# Altium integrated library Texas Instruments Power Management PWM Controller.IntLib: 1227 symbols (part 41 of 49)
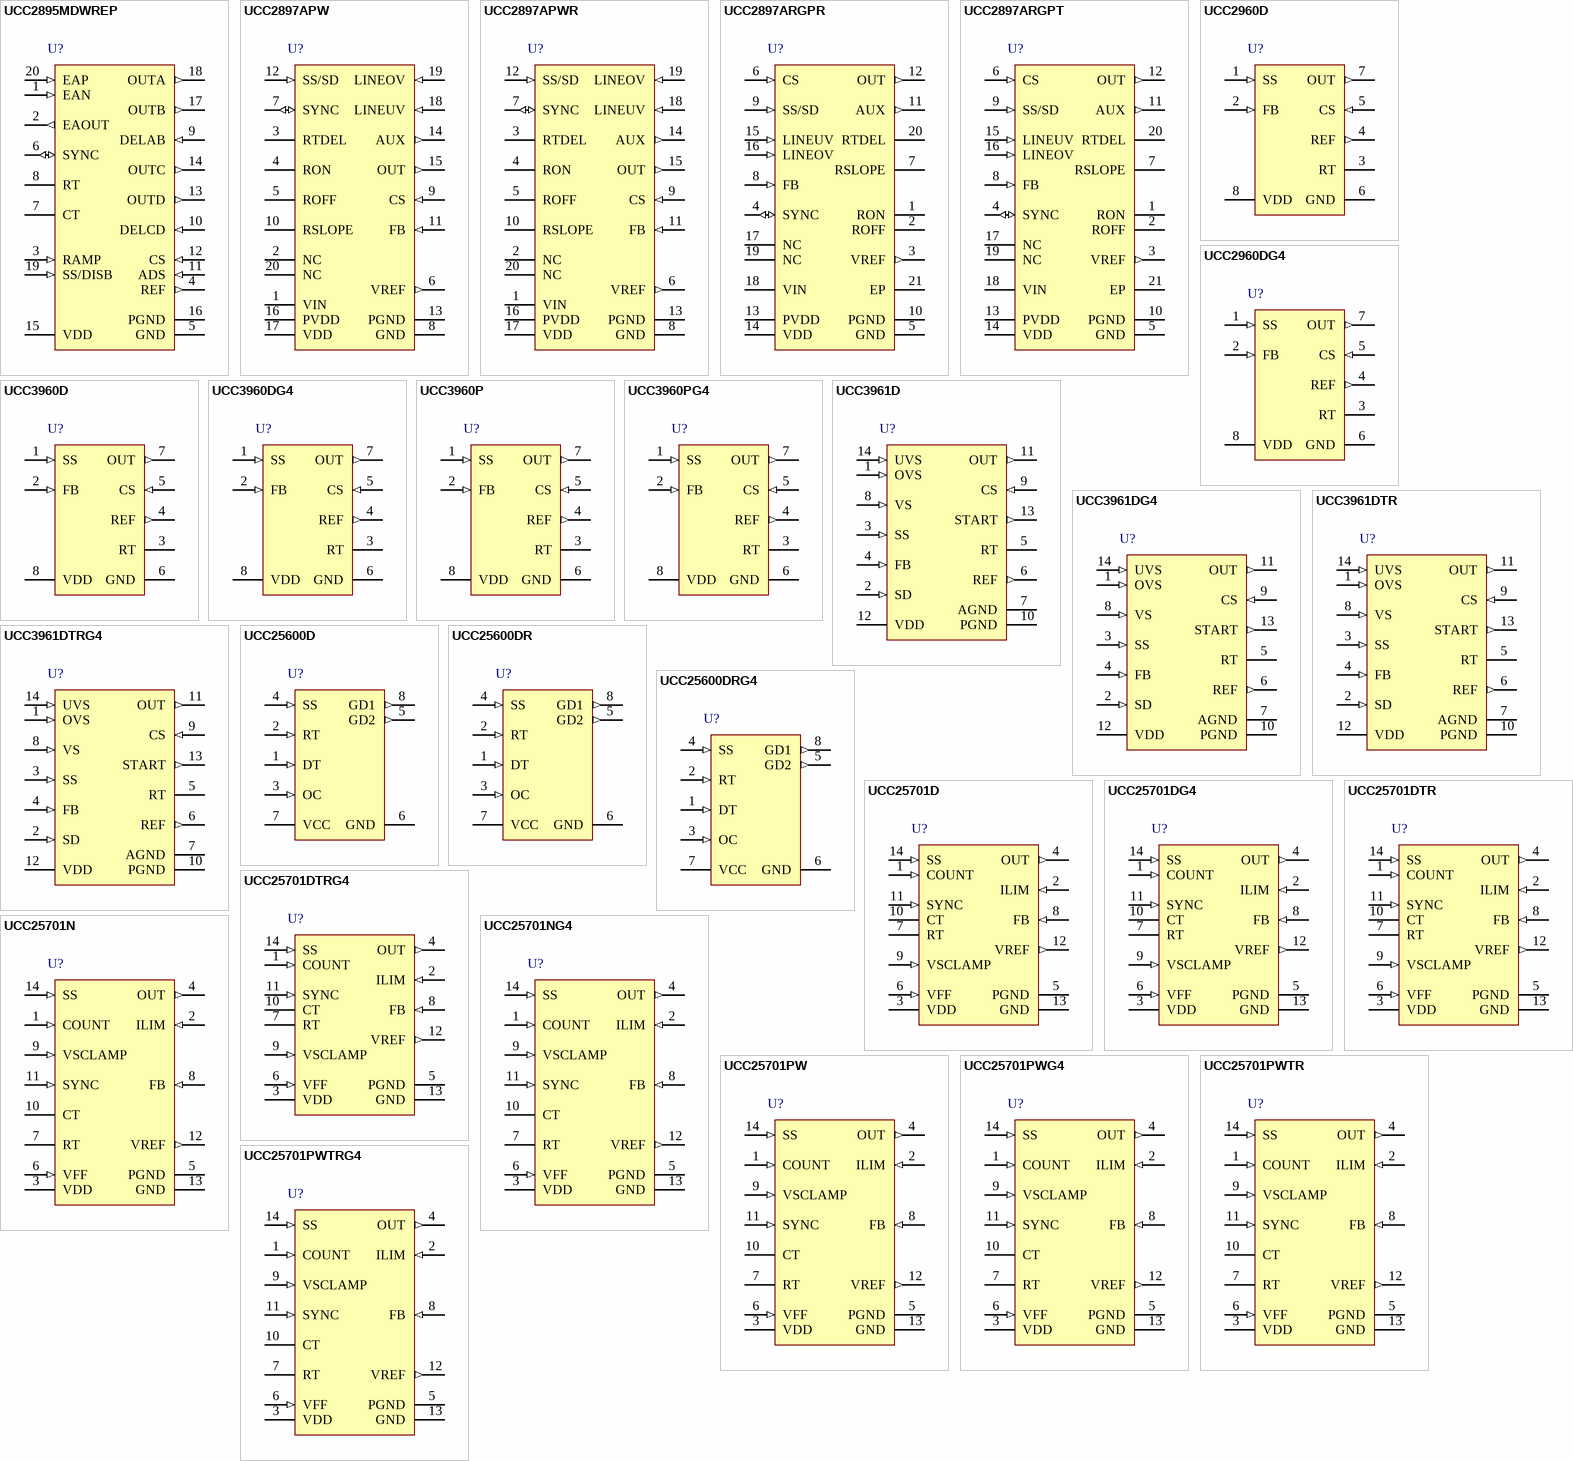
[diagram p83: symbols UCC2895MDWREP to UCC25701PWTRG4]

## UCC25600DRG4
designator U?
High-Performance Resonant Mode Controller with Voltage Control, 50 % Duty Cycle, -40 to +125 degC, 8-pin SOIC (D), Green (RoHS & no Sb/Br); PartNumber: UCC25600DRG4; Manufacturer: Texas Instruments; Duty Cycle(Max)(%): 50; Frequency(Max)(kHz): 350; Rating: Catalog; Regulated Outputs(#): 2; SubFamily: PWM Controller; Topology: Resonant, Half-Bridge; UVLO Thresholds On/Off(V): 10.5/9.5; DatasheetVersion: SLUS846B; PackageVersion: revM, Jun-2011; PackageReference: D8; PackageDescription: 8-Pin Plastic Small Outline Integrated Circuit, 4.9 x 3.9 mm, Pitch 1.27 mm Pitch; Supplier 1: Digi-Key; Supplier Part Number 1: UCC25600DRG4-ND; Supplier 2: Newark; Supplier Part Number 2: 34P6590; Supplier 3: Mouser; Supplier Part Number 3: 595-UCC25600DRG4; Control Method: Voltage; Eco-Plan: Green (RoHS & no Sb/Br); Mounting Technology: Surface Mount; Code_JEDEC: MS-012AA; ComponentLink1Description: Datasheet; ComponentLink1URL: http://www.ti.com/general/docs/lit/getliterature.tsp?genericPartNumber=UCC25600&fileType=pdf; ComponentLink2Description: URL Link1; ComponentLink2URL: Samples URL:http://www.ti.com/lit/ds/symlink/ucc25600.pdf
footprint D8_N (SOIC, 8-Leads, Body 4.9x3.9mm, Pitch 1.27mm, IPC Medium Density)
footprint D8_L (SOIC, 8-Leads, Body 4.9x3.9mm, Pitch 1.27mm, IPC High Density)
footprint D8_M (SOIC, 8-Leads, Body 4.9x3.9mm, Pitch 1.27mm, IPC Low Density)
pins: 1 DT (in) "This pin sets the dead time of high-side and low-side switch driving signals. Connect a resistor to ground. With internal 2.25-V voltage reference, the current flowing through the resistor sets the dead time. To prevent (See Datasheet)", 2 RT (in) "The current flowing out of this pin sets the frequency of the gate driver signals. Connect the opto-coupler collector to this pin to control the switching frequency for regulation purpose. Parallel a resistor to ground to (See Datasheet)", 3 OC (in) "Over-current protection pin. When the voltage on this pin is above 1 V, gate driver signals are actively pulled low. After the voltage falls below 0.6 V, the gate driver signal recovers with soft start. When OC pin voltage (See Datasheet)", 4 SS (in) "Soft-start pin. This pin sets the soft-start time of the system. Connect a capacitor to ground. Pulling this pin below 1 V will disable the device to allow easy ON/OFF control. The soft-start function is enabled after all (See Datasheet)", 5 GD2 (out) "High-side and low-side switch gate driver. Connect gate driver transformer primary side to these two pins to drive the half bridge.", 6 GND (power) "Ground.", 7 VCC (power) "Bias Supply. Connect this pin to a power supply less than 20 V. Parallel a 1-uF capacitor to ground to filter out noise.", 8 GD1 (out) "High-side and low-side switch gate driver. Connect gate driver transformer primary side to these two pins to drive the half bridge."

## UCC25701D
designator U?
Advanced Pulse Width Modulator with Voltage Control, 99 % Duty Cycle, -40 to +85 degC, 14-pin SOIC (D), Green (RoHS & no Sb/Br); PartNumber: UCC25701D; Manufacturer: Texas Instruments; Duty Cycle(Max)(%): 99; Frequency(Max)(kHz): 700; Rating: Catalog; Regulated Outputs(#): 1; SubFamily: PWM Controller; Topology: Boost, Flyback, Forward; UVLO Thresholds On/Off(V): 13/9; DatasheetVersion: SLUS293C; PackageVersion: revM, Jun-2011; PackageReference: D14; PackageDescription: 14-Pin Plastic Small Outline Integrated Circuit, 8.7 x 3.9 mm, Pitch 1.27 mm Pitch; Supplier 1: Digi-Key; Supplier Part Number 1: 296-11363-5-ND; Supplier 2: Newark; Supplier Part Number 2: 77C1914; Supplier 3: Mouser; Supplier Part Number 3: 595-UCC25701D; Control Method: Voltage; Eco-Plan: Green (RoHS & no Sb/Br); Mounting Technology: Surface Mount; Code_JEDEC: MS-012AB; ComponentLink1Description: Datasheet; ComponentLink1URL: http://www.ti.com/general/docs/lit/getliterature.tsp?genericPartNumber=UCC25701&fileType=pdf
footprint D14_N (SOIC, 14-Leads, Body 8.7x3.9mm, Pitch 1.27mm, IPC Medium Density)
footprint D14_L (SOIC, 14-Leads, Body 8.7x3.9mm, Pitch 1.27mm, IPC High Density)
footprint D14_M (SOIC, 14-Leads, Body 8.7x3.9mm, Pitch 1.27mm, IPC Low Density)
pins: 1 COUNT (in) "Capacitor to ground integrates current pulses generated when ILIM exceeds 200mV. A resistor to ground sets the discharge time constant. A voltage over 4V will initiate a latched soft stop cycle.", 2 ILIM (in) "Provides a pulse by pulse current limit by terminating the PWM pulse when the input is above 200mV. An input over 600mV initiates a latched soft stop cycle.", 3 VDD (power) "Power supply pin. A shunt regulator limits supply voltage to 14V typical at 10mA shunt current.", 4 OUT (out) "Gate drive output. Output resistance is 10ohm maximum.", 5 PGND (power) "Power Ground. Ground return for output driver and currents.", 6 VFF (in) "Voltage feedforward pin. This pin connects to the power supply input voltage through a resistive divider and provides feedforward compensation over a 0.8V to 3.2V range. A voltage greater than 4.0V or less than 0.6V on this (See Datasheet)", 7 RT "The voltage on this pin mirrors VFF over a 0.8V to 3.2V range. A resistor to ground sets the ramp capacitor charge current. The resistor value should be between 20k and 200k.", 8 FB (in) "Input to the PWM comparator. This pin is intended to be driven with an optocoupler circuit. Input impedance is 50 k ohm Typical modulation range is 1.6V to 3.6V.", 9 VSCLAMP (in) "Voltage at this pin is compared to the CT voltage, providing a constant volt-second limit. The comparator output terminates the PWM pulse when the ramp voltage exceeds VSCLAMP.", 10 CT "A capacitor to ground provides the oscillator/ feedforward sawtooth waveform. Charge current is 2 ohm IRT, resulting in a CT slope proportional to the input voltage. The ramp voltage range is GND to VRT.", 11 SYNC (in) "Level sensitive oscillator sync input. A high level forces the gate drive output low and resets the ramp capacitor. On-time starts at the negative edge the pulse. There is a 3 uA pull down current on the pin, allowing it to (See Datasheet)", 12 VREF (out) "5.0V trimmed reference with 2% variation over line, load and temperature. Bypass with a minimum of 0.1 uF to ground.", 13 GND (power) "Analog Ground. Ground return for all other circuits. This pin must be connected directly to PGND on the board.", 14 SS (in) "Soft Start pin. A capacitor is connected between this pin and ground to set the start up time of the converter. After power up (VDD>13V AND VREF>4.5V), or after a fault condition has been cleared, the soft start capacitor is (See Datasheet)"

## UCC25701DG4
designator U?
Advanced Pulse Width Modulator with Voltage Control, 99 % Duty Cycle, -40 to +85 degC, 14-pin SOIC (D), Green (RoHS & no Sb/Br); PartNumber: UCC25701DG4; Manufacturer: Texas Instruments; Duty Cycle(Max)(%): 99; Frequency(Max)(kHz): 700; Rating: Catalog; Regulated Outputs(#): 1; SubFamily: PWM Controller; Topology: Boost, Flyback, Forward; UVLO Thresholds On/Off(V): 13/9; DatasheetVersion: SLUS293C; PackageVersion: revM, Jun-2011; PackageReference: D14; PackageDescription: 14-Pin Plastic Small Outline Integrated Circuit, 8.7 x 3.9 mm, Pitch 1.27 mm Pitch; Supplier 1: Digi-Key; Supplier Part Number 1: UCC25701DG4-ND; Supplier 2: Newark; Supplier Part Number 2: 70K5855; Supplier 3: Mouser; Supplier Part Number 3: 595-UCC25701DG4; Control Method: Voltage; Eco-Plan: Green (RoHS & no Sb/Br); Mounting Technology: Surface Mount; Code_JEDEC: MS-012AB; ComponentLink1Description: Datasheet; ComponentLink1URL: http://www.ti.com/general/docs/lit/getliterature.tsp?genericPartNumber=UCC25701&fileType=pdf
footprint D14_N (SOIC, 14-Leads, Body 8.7x3.9mm, Pitch 1.27mm, IPC Medium Density)
footprint D14_L (SOIC, 14-Leads, Body 8.7x3.9mm, Pitch 1.27mm, IPC High Density)
footprint D14_M (SOIC, 14-Leads, Body 8.7x3.9mm, Pitch 1.27mm, IPC Low Density)
pins: 1 COUNT (in) "Capacitor to ground integrates current pulses generated when ILIM exceeds 200mV. A resistor to ground sets the discharge time constant. A voltage over 4V will initiate a latched soft stop cycle.", 2 ILIM (in) "Provides a pulse by pulse current limit by terminating the PWM pulse when the input is above 200mV. An input over 600mV initiates a latched soft stop cycle.", 3 VDD (power) "Power supply pin. A shunt regulator limits supply voltage to 14V typical at 10mA shunt current.", 4 OUT (out) "Gate drive output. Output resistance is 10ohm maximum.", 5 PGND (power) "Power Ground. Ground return for output driver and currents.", 6 VFF (in) "Voltage feedforward pin. This pin connects to the power supply input voltage through a resistive divider and provides feedforward compensation over a 0.8V to 3.2V range. A voltage greater than 4.0V or less than 0.6V on this (See Datasheet)", 7 RT "The voltage on this pin mirrors VFF over a 0.8V to 3.2V range. A resistor to ground sets the ramp capacitor charge current. The resistor value should be between 20k and 200k.", 8 FB (in) "Input to the PWM comparator. This pin is intended to be driven with an optocoupler circuit. Input impedance is 50 k ohm Typical modulation range is 1.6V to 3.6V.", 9 VSCLAMP (in) "Voltage at this pin is compared to the CT voltage, providing a constant volt-second limit. The comparator output terminates the PWM pulse when the ramp voltage exceeds VSCLAMP.", 10 CT "A capacitor to ground provides the oscillator/ feedforward sawtooth waveform. Charge current is 2 ohm IRT, resulting in a CT slope proportional to the input voltage. The ramp voltage range is GND to VRT.", 11 SYNC (in) "Level sensitive oscillator sync input. A high level forces the gate drive output low and resets the ramp capacitor. On-time starts at the negative edge the pulse. There is a 3 uA pull down current on the pin, allowing it to (See Datasheet)", 12 VREF (out) "5.0V trimmed reference with 2% variation over line, load and temperature. Bypass with a minimum of 0.1 uF to ground.", 13 GND (power) "Analog Ground. Ground return for all other circuits. This pin must be connected directly to PGND on the board.", 14 SS (in) "Soft Start pin. A capacitor is connected between this pin and ground to set the start up time of the converter. After power up (VDD>13V AND VREF>4.5V), or after a fault condition has been cleared, the soft start capacitor is (See Datasheet)"

## UCC25701DTR
designator U?
Advanced Pulse Width Modulator with Voltage Control, 99 % Duty Cycle, -40 to +85 degC, 14-pin SOIC (D), Green (RoHS & no Sb/Br); PartNumber: UCC25701DTR; Manufacturer: Texas Instruments; Duty Cycle(Max)(%): 99; Frequency(Max)(kHz): 700; Rating: Catalog; Regulated Outputs(#): 1; SubFamily: PWM Controller; Topology: Boost, Flyback, Forward; UVLO Thresholds On/Off(V): 13/9; DatasheetVersion: SLUS293C; PackageVersion: revM, Jun-2011; PackageReference: D14; PackageDescription: 14-Pin Plastic Small Outline Integrated Circuit, 8.7 x 3.9 mm, Pitch 1.27 mm Pitch; Supplier 1: Digi-Key; Supplier Part Number 1: UCC25701DTR-ND; Supplier 2: Newark; Supplier Part Number 2: 77C1915; Supplier 3: Mouser; Supplier Part Number 3: 595-UCC25701DTR; Control Method: Voltage; Eco-Plan: Green (RoHS & no Sb/Br); Mounting Technology: Surface Mount; Code_JEDEC: MS-012AB; ComponentLink1Description: Datasheet; ComponentLink1URL: http://www.ti.com/general/docs/lit/getliterature.tsp?genericPartNumber=UCC25701&fileType=pdf
footprint D14_N (SOIC, 14-Leads, Body 8.7x3.9mm, Pitch 1.27mm, IPC Medium Density)
footprint D14_L (SOIC, 14-Leads, Body 8.7x3.9mm, Pitch 1.27mm, IPC High Density)
footprint D14_M (SOIC, 14-Leads, Body 8.7x3.9mm, Pitch 1.27mm, IPC Low Density)
pins: 1 COUNT (in) "Capacitor to ground integrates current pulses generated when ILIM exceeds 200mV. A resistor to ground sets the discharge time constant. A voltage over 4V will initiate a latched soft stop cycle.", 2 ILIM (in) "Provides a pulse by pulse current limit by terminating the PWM pulse when the input is above 200mV. An input over 600mV initiates a latched soft stop cycle.", 3 VDD (power) "Power supply pin. A shunt regulator limits supply voltage to 14V typical at 10mA shunt current.", 4 OUT (out) "Gate drive output. Output resistance is 10ohm maximum.", 5 PGND (power) "Power Ground. Ground return for output driver and currents.", 6 VFF (in) "Voltage feedforward pin. This pin connects to the power supply input voltage through a resistive divider and provides feedforward compensation over a 0.8V to 3.2V range. A voltage greater than 4.0V or less than 0.6V on this (See Datasheet)", 7 RT "The voltage on this pin mirrors VFF over a 0.8V to 3.2V range. A resistor to ground sets the ramp capacitor charge current. The resistor value should be between 20k and 200k.", 8 FB (in) "Input to the PWM comparator. This pin is intended to be driven with an optocoupler circuit. Input impedance is 50 k ohm Typical modulation range is 1.6V to 3.6V.", 9 VSCLAMP (in) "Voltage at this pin is compared to the CT voltage, providing a constant volt-second limit. The comparator output terminates the PWM pulse when the ramp voltage exceeds VSCLAMP.", 10 CT "A capacitor to ground provides the oscillator/ feedforward sawtooth waveform. Charge current is 2 ohm IRT, resulting in a CT slope proportional to the input voltage. The ramp voltage range is GND to VRT.", 11 SYNC (in) "Level sensitive oscillator sync input. A high level forces the gate drive output low and resets the ramp capacitor. On-time starts at the negative edge the pulse. There is a 3 uA pull down current on the pin, allowing it to (See Datasheet)", 12 VREF (out) "5.0V trimmed reference with 2% variation over line, load and temperature. Bypass with a minimum of 0.1 uF to ground.", 13 GND (power) "Analog Ground. Ground return for all other circuits. This pin must be connected directly to PGND on the board.", 14 SS (in) "Soft Start pin. A capacitor is connected between this pin and ground to set the start up time of the converter. After power up (VDD>13V AND VREF>4.5V), or after a fault condition has been cleared, the soft start capacitor is (See Datasheet)"

## UCC25701DTRG4
designator U?
Advanced Pulse Width Modulator with Voltage Control, 99 % Duty Cycle, -40 to +85 degC, 14-pin SOIC (D), Green (RoHS & no Sb/Br); PartNumber: UCC25701DTRG4; Manufacturer: Texas Instruments; Duty Cycle(Max)(%): 99; Frequency(Max)(kHz): 700; Rating: Catalog; Regulated Outputs(#): 1; SubFamily: PWM Controller; Topology: Boost, Flyback, Forward; UVLO Thresholds On/Off(V): 13/9; DatasheetVersion: SLUS293C; PackageVersion: revM, Jun-2011; PackageReference: D14; PackageDescription: 14-Pin Plastic Small Outline Integrated Circuit, 8.7 x 3.9 mm, Pitch 1.27 mm Pitch; Supplier 1: Digi-Key; Supplier Part Number 1: UCC25701DTRG4-ND; Supplier 2: Newark; Supplier Part Number 2: 67K8760; Supplier 3: Mouser; Supplier Part Number 3: 595-UCC25701DTRG4; Control Method: Voltage; Eco-Plan: Green (RoHS & no Sb/Br); Mounting Technology: Surface Mount; Code_JEDEC: MS-012AB; ComponentLink1Description: Datasheet; ComponentLink1URL: http://www.ti.com/general/docs/lit/getliterature.tsp?genericPartNumber=UCC25701&fileType=pdf
footprint D14_N (SOIC, 14-Leads, Body 8.7x3.9mm, Pitch 1.27mm, IPC Medium Density)
footprint D14_L (SOIC, 14-Leads, Body 8.7x3.9mm, Pitch 1.27mm, IPC High Density)
footprint D14_M (SOIC, 14-Leads, Body 8.7x3.9mm, Pitch 1.27mm, IPC Low Density)
pins: 1 COUNT (in) "Capacitor to ground integrates current pulses generated when ILIM exceeds 200mV. A resistor to ground sets the discharge time constant. A voltage over 4V will initiate a latched soft stop cycle.", 2 ILIM (in) "Provides a pulse by pulse current limit by terminating the PWM pulse when the input is above 200mV. An input over 600mV initiates a latched soft stop cycle.", 3 VDD (power) "Power supply pin. A shunt regulator limits supply voltage to 14V typical at 10mA shunt current.", 4 OUT (out) "Gate drive output. Output resistance is 10ohm maximum.", 5 PGND (power) "Power Ground. Ground return for output driver and currents.", 6 VFF (in) "Voltage feedforward pin. This pin connects to the power supply input voltage through a resistive divider and provides feedforward compensation over a 0.8V to 3.2V range. A voltage greater than 4.0V or less than 0.6V on this (See Datasheet)", 7 RT "The voltage on this pin mirrors VFF over a 0.8V to 3.2V range. A resistor to ground sets the ramp capacitor charge current. The resistor value should be between 20k and 200k.", 8 FB (in) "Input to the PWM comparator. This pin is intended to be driven with an optocoupler circuit. Input impedance is 50 k ohm Typical modulation range is 1.6V to 3.6V.", 9 VSCLAMP (in) "Voltage at this pin is compared to the CT voltage, providing a constant volt-second limit. The comparator output terminates the PWM pulse when the ramp voltage exceeds VSCLAMP.", 10 CT "A capacitor to ground provides the oscillator/ feedforward sawtooth waveform. Charge current is 2 ohm IRT, resulting in a CT slope proportional to the input voltage. The ramp voltage range is GND to VRT.", 11 SYNC (in) "Level sensitive oscillator sync input. A high level forces the gate drive output low and resets the ramp capacitor. On-time starts at the negative edge the pulse. There is a 3 uA pull down current on the pin, allowing it to (See Datasheet)", 12 VREF (out) "5.0V trimmed reference with 2% variation over line, load and temperature. Bypass with a minimum of 0.1 uF to ground.", 13 GND (power) "Analog Ground. Ground return for all other circuits. This pin must be connected directly to PGND on the board.", 14 SS (in) "Soft Start pin. A capacitor is connected between this pin and ground to set the start up time of the converter. After power up (VDD>13V AND VREF>4.5V), or after a fault condition has been cleared, the soft start capacitor is (See Datasheet)"

## UCC25701N
designator U?
Advanced Pulse Width Modulator with Voltage Control, 99 % Duty Cycle, -40 to +85 degC, 14-pin PDIP (N), Green (RoHS & no Sb/Br); PartNumber: UCC25701N; Manufacturer: Texas Instruments; Duty Cycle(Max)(%): 99; Frequency(Max)(kHz): 700; Rating: Catalog; Regulated Outputs(#): 1; SubFamily: PWM Controller; Topology: Boost, Flyback, Forward; UVLO Thresholds On/Off(V): 13/9; DatasheetVersion: SLUS293C; PackageVersion: revE, Dec-2002; PackageReference: N14; PackageDescription: 14-Pin Plastic Dual-In-Line Package, Row Spacing 7.62 mm, Pitch 2.54 mm; Supplier 1: Digi-Key; Supplier Part Number 1: 296-11364-5-ND; Supplier 2: Newark; Supplier Part Number 2: 03C3178; Supplier 3: Mouser; Supplier Part Number 3: 595-UCC25701N; Control Method: Voltage; Eco-Plan: Green (RoHS & no Sb/Br); Mounting Technology: Through Hole; Code_JEDEC: MS-001; ComponentLink1Description: Datasheet; ComponentLink1URL: http://www.ti.com/general/docs/lit/getliterature.tsp?genericPartNumber=UCC25701&fileType=pdf
footprint N14 (DIP, 14-Leads, Row Spacing 7.62mm, Pitch 2.54mm, Body 19.3x6.4mm)
pins: 1 COUNT (in) "Capacitor to ground integrates current pulses generated when ILIM exceeds 200mV. A resistor to ground sets the discharge time constant. A voltage over 4V will initiate a latched soft stop cycle.", 2 ILIM (in) "Provides a pulse by pulse current limit by terminating the PWM pulse when the input is above 200mV. An input over 600mV initiates a latched soft stop cycle.", 3 VDD (power) "Power supply pin. A shunt regulator limits supply voltage to 14V typical at 10mA shunt current.", 4 OUT (out) "Gate drive output. Output resistance is 10ohm maximum.", 5 PGND (power) "Power Ground. Ground return for output driver and currents.", 6 VFF (in) "Voltage feedforward pin. This pin connects to the power supply input voltage through a resistive divider and provides feedforward compensation over a 0.8V to 3.2V range. A voltage greater than 4.0V or less than 0.6V on this (See Datasheet)", 7 RT "The voltage on this pin mirrors VFF over a 0.8V to 3.2V range. A resistor to ground sets the ramp capacitor charge current. The resistor value should be between 20k and 200k.", 8 FB (in) "Input to the PWM comparator. This pin is intended to be driven with an optocoupler circuit. Input impedance is 50 k ohm Typical modulation range is 1.6V to 3.6V.", 9 VSCLAMP (in) "Voltage at this pin is compared to the CT voltage, providing a constant volt-second limit. The comparator output terminates the PWM pulse when the ramp voltage exceeds VSCLAMP.", 10 CT "A capacitor to ground provides the oscillator/ feedforward sawtooth waveform. Charge current is 2 ohm IRT, resulting in a CT slope proportional to the input voltage. The ramp voltage range is GND to VRT.", 11 SYNC (in) "Level sensitive oscillator sync input. A high level forces the gate drive output low and resets the ramp capacitor. On-time starts at the negative edge the pulse. There is a 3 uA pull down current on the pin, allowing it to (See Datasheet)", 12 VREF (out) "5.0V trimmed reference with 2% variation over line, load and temperature. Bypass with a minimum of 0.1 uF to ground.", 13 GND (power) "Analog Ground. Ground return for all other circuits. This pin must be connected directly to PGND on the board.", 14 SS (in) "Soft Start pin. A capacitor is connected between this pin and ground to set the start up time of the converter. After power up (VDD>13V AND VREF>4.5V), or after a fault condition has been cleared, the soft start capacitor is (See Datasheet)"

## UCC25701NG4
designator U?
Advanced Pulse Width Modulator with Voltage Control, 99 % Duty Cycle, -40 to +85 degC, 14-pin PDIP (N), Green (RoHS & no Sb/Br); PartNumber: UCC25701NG4; Manufacturer: Texas Instruments; Duty Cycle(Max)(%): 99; Frequency(Max)(kHz): 700; Rating: Catalog; Regulated Outputs(#): 1; SubFamily: PWM Controller; Topology: Boost, Flyback, Forward; UVLO Thresholds On/Off(V): 13/9; DatasheetVersion: SLUS293C; PackageVersion: revE, Dec-2002; PackageReference: N14; PackageDescription: 14-Pin Plastic Dual-In-Line Package, Row Spacing 7.62 mm, Pitch 2.54 mm; Supplier 1: Digi-Key; Supplier Part Number 1: UCC25701NG4-ND; Supplier 2: Newark; Supplier Part Number 2: 24K6270; Supplier 3: Mouser; Supplier Part Number 3: 595-UCC25701NG4; Control Method: Voltage; Eco-Plan: Green (RoHS & no Sb/Br); Mounting Technology: Through Hole; Code_JEDEC: MS-001; ComponentLink1Description: Datasheet; ComponentLink1URL: http://www.ti.com/general/docs/lit/getliterature.tsp?genericPartNumber=UCC25701&fileType=pdf
footprint N14 (DIP, 14-Leads, Row Spacing 7.62mm, Pitch 2.54mm, Body 19.3x6.4mm)
pins: 1 COUNT (in) "Capacitor to ground integrates current pulses generated when ILIM exceeds 200mV. A resistor to ground sets the discharge time constant. A voltage over 4V will initiate a latched soft stop cycle.", 2 ILIM (in) "Provides a pulse by pulse current limit by terminating the PWM pulse when the input is above 200mV. An input over 600mV initiates a latched soft stop cycle.", 3 VDD (power) "Power supply pin. A shunt regulator limits supply voltage to 14V typical at 10mA shunt current.", 4 OUT (out) "Gate drive output. Output resistance is 10ohm maximum.", 5 PGND (power) "Power Ground. Ground return for output driver and currents.", 6 VFF (in) "Voltage feedforward pin. This pin connects to the power supply input voltage through a resistive divider and provides feedforward compensation over a 0.8V to 3.2V range. A voltage greater than 4.0V or less than 0.6V on this (See Datasheet)", 7 RT "The voltage on this pin mirrors VFF over a 0.8V to 3.2V range. A resistor to ground sets the ramp capacitor charge current. The resistor value should be between 20k and 200k.", 8 FB (in) "Input to the PWM comparator. This pin is intended to be driven with an optocoupler circuit. Input impedance is 50 k ohm Typical modulation range is 1.6V to 3.6V.", 9 VSCLAMP (in) "Voltage at this pin is compared to the CT voltage, providing a constant volt-second limit. The comparator output terminates the PWM pulse when the ramp voltage exceeds VSCLAMP.", 10 CT "A capacitor to ground provides the oscillator/ feedforward sawtooth waveform. Charge current is 2 ohm IRT, resulting in a CT slope proportional to the input voltage. The ramp voltage range is GND to VRT.", 11 SYNC (in) "Level sensitive oscillator sync input. A high level forces the gate drive output low and resets the ramp capacitor. On-time starts at the negative edge the pulse. There is a 3 uA pull down current on the pin, allowing it to (See Datasheet)", 12 VREF (out) "5.0V trimmed reference with 2% variation over line, load and temperature. Bypass with a minimum of 0.1 uF to ground.", 13 GND (power) "Analog Ground. Ground return for all other circuits. This pin must be connected directly to PGND on the board.", 14 SS (in) "Soft Start pin. A capacitor is connected between this pin and ground to set the start up time of the converter. After power up (VDD>13V AND VREF>4.5V), or after a fault condition has been cleared, the soft start capacitor is (See Datasheet)"

## UCC25701PW
designator U?
Advanced Pulse Width Modulator with Voltage Control, 99 % Duty Cycle, -40 to +85 degC, 14-pin TSSOP (PW), Green (RoHS & no Sb/Br); PartNumber: UCC25701PW; Manufacturer: Texas Instruments; Duty Cycle(Max)(%): 99; Frequency(Max)(kHz): 700; Rating: Catalog; Regulated Outputs(#): 1; SubFamily: PWM Controller; Topology: Boost, Flyback, Forward; UVLO Thresholds On/Off(V): 13/9; DatasheetVersion: SLUS293C; PackageVersion: revG, Feb-2011; PackageReference: PW14; PackageDescription: 14-Pin Thin Small Outline Package 0.65 mm Pitch; Supplier 1: Digi-Key; Supplier Part Number 1: 296-11365-5-ND; Supplier 2: Newark; Supplier Part Number 2: 77C1916; Supplier 3: Mouser; Supplier Part Number 3: 595-UCC25701PW; Control Method: Voltage; Eco-Plan: Green (RoHS & no Sb/Br); Mounting Technology: Surface Mount; Code_JEDEC: MO-153; ComponentLink1Description: Datasheet; ComponentLink1URL: http://www.ti.com/general/docs/lit/getliterature.tsp?genericPartNumber=UCC25701&fileType=pdf
footprint PW14_N (TSOP, 14-Leads, Body 5x4.4mm, Pitch 0.65mm, IPC Medium Density)
footprint PW14_L (TSOP, 14-Leads, Body 5x4.4mm, Pitch 0.65mm, IPC High Density)
footprint PW14_M (TSOP, 14-Leads, Body 5x4.4mm, Pitch 0.65mm, IPC Low Density)
pins: 1 COUNT (in) "Capacitor to ground integrates current pulses generated when ILIM exceeds 200mV. A resistor to ground sets the discharge time constant. A voltage over 4V will initiate a latched soft stop cycle.", 2 ILIM (in) "Provides a pulse by pulse current limit by terminating the PWM pulse when the input is above 200mV. An input over 600mV initiates a latched soft stop cycle.", 3 VDD (power) "Power supply pin. A shunt regulator limits supply voltage to 14V typical at 10mA shunt current.", 4 OUT (out) "Gate drive output. Output resistance is 10ohm maximum.", 5 PGND (power) "Power Ground. Ground return for output driver and currents.", 6 VFF (in) "Voltage feedforward pin. This pin connects to the power supply input voltage through a resistive divider and provides feedforward compensation over a 0.8V to 3.2V range. A voltage greater than 4.0V or less than 0.6V on this (See Datasheet)", 7 RT "The voltage on this pin mirrors VFF over a 0.8V to 3.2V range. A resistor to ground sets the ramp capacitor charge current. The resistor value should be between 20k and 200k.", 8 FB (in) "Input to the PWM comparator. This pin is intended to be driven with an optocoupler circuit. Input impedance is 50 k ohm Typical modulation range is 1.6V to 3.6V.", 9 VSCLAMP (in) "Voltage at this pin is compared to the CT voltage, providing a constant volt-second limit. The comparator output terminates the PWM pulse when the ramp voltage exceeds VSCLAMP.", 10 CT "A capacitor to ground provides the oscillator/ feedforward sawtooth waveform. Charge current is 2 ohm IRT, resulting in a CT slope proportional to the input voltage. The ramp voltage range is GND to VRT.", 11 SYNC (in) "Level sensitive oscillator sync input. A high level forces the gate drive output low and resets the ramp capacitor. On-time starts at the negative edge the pulse. There is a 3 uA pull down current on the pin, allowing it to (See Datasheet)", 12 VREF (out) "5.0V trimmed reference with 2% variation over line, load and temperature. Bypass with a minimum of 0.1 uF to ground.", 13 GND (power) "Analog Ground. Ground return for all other circuits. This pin must be connected directly to PGND on the board.", 14 SS (in) "Soft Start pin. A capacitor is connected between this pin and ground to set the start up time of the converter. After power up (VDD>13V AND VREF>4.5V), or after a fault condition has been cleared, the soft start capacitor is (See Datasheet)"

## UCC25701PWG4
designator U?
Advanced Pulse Width Modulator with Voltage Control, 99 % Duty Cycle, -40 to +85 degC, 14-pin TSSOP (PW), Green (RoHS & no Sb/Br); PartNumber: UCC25701PWG4; Manufacturer: Texas Instruments; Duty Cycle(Max)(%): 99; Frequency(Max)(kHz): 700; Rating: Catalog; Regulated Outputs(#): 1; SubFamily: PWM Controller; Topology: Boost, Flyback, Forward; UVLO Thresholds On/Off(V): 13/9; DatasheetVersion: SLUS293C; PackageVersion: revG, Feb-2011; PackageReference: PW14; PackageDescription: 14-Pin Thin Small Outline Package 0.65 mm Pitch; Supplier 1: Digi-Key; Supplier Part Number 1: UCC25701PWG4-ND; Supplier 2: Newark; Supplier Part Number 2: 70K5856; Supplier 3: Mouser; Supplier Part Number 3: 595-UCC25701PWG4; Control Method: Voltage; Eco-Plan: Green (RoHS & no Sb/Br); Mounting Technology: Surface Mount; Code_JEDEC: MO-153; ComponentLink1Description: Datasheet; ComponentLink1URL: http://www.ti.com/general/docs/lit/getliterature.tsp?genericPartNumber=UCC25701&fileType=pdf
footprint PW14_N (TSOP, 14-Leads, Body 5x4.4mm, Pitch 0.65mm, IPC Medium Density)
footprint PW14_L (TSOP, 14-Leads, Body 5x4.4mm, Pitch 0.65mm, IPC High Density)
footprint PW14_M (TSOP, 14-Leads, Body 5x4.4mm, Pitch 0.65mm, IPC Low Density)
pins: 1 COUNT (in) "Capacitor to ground integrates current pulses generated when ILIM exceeds 200mV. A resistor to ground sets the discharge time constant. A voltage over 4V will initiate a latched soft stop cycle.", 2 ILIM (in) "Provides a pulse by pulse current limit by terminating the PWM pulse when the input is above 200mV. An input over 600mV initiates a latched soft stop cycle.", 3 VDD (power) "Power supply pin. A shunt regulator limits supply voltage to 14V typical at 10mA shunt current.", 4 OUT (out) "Gate drive output. Output resistance is 10ohm maximum.", 5 PGND (power) "Power Ground. Ground return for output driver and currents.", 6 VFF (in) "Voltage feedforward pin. This pin connects to the power supply input voltage through a resistive divider and provides feedforward compensation over a 0.8V to 3.2V range. A voltage greater than 4.0V or less than 0.6V on this (See Datasheet)", 7 RT "The voltage on this pin mirrors VFF over a 0.8V to 3.2V range. A resistor to ground sets the ramp capacitor charge current. The resistor value should be between 20k and 200k.", 8 FB (in) "Input to the PWM comparator. This pin is intended to be driven with an optocoupler circuit. Input impedance is 50 k ohm Typical modulation range is 1.6V to 3.6V.", 9 VSCLAMP (in) "Voltage at this pin is compared to the CT voltage, providing a constant volt-second limit. The comparator output terminates the PWM pulse when the ramp voltage exceeds VSCLAMP.", 10 CT "A capacitor to ground provides the oscillator/ feedforward sawtooth waveform. Charge current is 2 ohm IRT, resulting in a CT slope proportional to the input voltage. The ramp voltage range is GND to VRT.", 11 SYNC (in) "Level sensitive oscillator sync input. A high level forces the gate drive output low and resets the ramp capacitor. On-time starts at the negative edge the pulse. There is a 3 uA pull down current on the pin, allowing it to (See Datasheet)", 12 VREF (out) "5.0V trimmed reference with 2% variation over line, load and temperature. Bypass with a minimum of 0.1 uF to ground.", 13 GND (power) "Analog Ground. Ground return for all other circuits. This pin must be connected directly to PGND on the board.", 14 SS (in) "Soft Start pin. A capacitor is connected between this pin and ground to set the start up time of the converter. After power up (VDD>13V AND VREF>4.5V), or after a fault condition has been cleared, the soft start capacitor is (See Datasheet)"

## UCC25701PWTR
designator U?
Advanced Voltage Mode Pulse Width Modulator with Voltage Control, 99 % Duty Cycle, -40 to +85 degC, 14-pin TSSOP (PW), Green (RoHS & no Sb/Br); PartNumber: UCC25701PWTR; Manufacturer: Texas Instruments; Duty Cycle(Max)(%): 99; Frequency(Max)(kHz): 700; Rating: Catalog; Regulated Outputs(#): 1; SubFamily: PWM Controller; Topology: Boost, Flyback, Forward; UVLO Thresholds On/Off(V): 13/9; DatasheetVersion: SLUS293C; PackageVersion: revG, Feb-2011; PackageReference: PW14; PackageDescription: 14-Pin Thin Small Outline Package 0.65 mm Pitch; Supplier 1: Digi-Key; Supplier Part Number 1: UCC25701PWTR-ND; Supplier 2: Newark; Supplier Part Number 2: 77C1917; Supplier 3: Mouser; Supplier Part Number 3: 595-UCC25701PWTR; Control Method: Voltage; Eco-Plan: Green (RoHS & no Sb/Br); Mounting Technology: Surface Mount; Code_JEDEC: MO-153; ComponentLink1Description: Datasheet; ComponentLink1URL: http://www.ti.com/general/docs/lit/getliterature.tsp?genericPartNumber=UCC25701&fileType=pdf
footprint PW14_N (TSOP, 14-Leads, Body 5x4.4mm, Pitch 0.65mm, IPC Medium Density)
footprint PW14_L (TSOP, 14-Leads, Body 5x4.4mm, Pitch 0.65mm, IPC High Density)
footprint PW14_M (TSOP, 14-Leads, Body 5x4.4mm, Pitch 0.65mm, IPC Low Density)
pins: 1 COUNT (in) "Capacitor to ground integrates current pulses generated when ILIM exceeds 200mV. A resistor to ground sets the discharge time constant. A voltage over 4V will initiate a latched soft stop cycle.", 2 ILIM (in) "Provides a pulse by pulse current limit by terminating the PWM pulse when the input is above 200mV. An input over 600mV initiates a latched soft stop cycle.", 3 VDD (power) "Power supply pin. A shunt regulator limits supply voltage to 14V typical at 10mA shunt current.", 4 OUT (out) "Gate drive output. Output resistance is 10ohm maximum.", 5 PGND (power) "Power Ground. Ground return for output driver and currents.", 6 VFF (in) "Voltage feedforward pin. This pin connects to the power supply input voltage through a resistive divider and provides feedforward compensation over a 0.8V to 3.2V range. A voltage greater than 4.0V or less than 0.6V on this (See Datasheet)", 7 RT "The voltage on this pin mirrors VFF over a 0.8V to 3.2V range. A resistor to ground sets the ramp capacitor charge current. The resistor value should be between 20k and 200k.", 8 FB (in) "Input to the PWM comparator. This pin is intended to be driven with an optocoupler circuit. Input impedance is 50 k ohm Typical modulation range is 1.6V to 3.6V.", 9 VSCLAMP (in) "Voltage at this pin is compared to the CT voltage, providing a constant volt-second limit. The comparator output terminates the PWM pulse when the ramp voltage exceeds VSCLAMP.", 10 CT "A capacitor to ground provides the oscillator/ feedforward sawtooth waveform. Charge current is 2 ohm IRT, resulting in a CT slope proportional to the input voltage. The ramp voltage range is GND to VRT.", 11 SYNC (in) "Level sensitive oscillator sync input. A high level forces the gate drive output low and resets the ramp capacitor. On-time starts at the negative edge the pulse. There is a 3 uA pull down current on the pin, allowing it to (See Datasheet)", 12 VREF (out) "5.0V trimmed reference with 2% variation over line, load and temperature. Bypass with a minimum of 0.1 uF to ground.", 13 GND (power) "Analog Ground. Ground return for all other circuits. This pin must be connected directly to PGND on the board.", 14 SS (in) "Soft Start pin. A capacitor is connected between this pin and ground to set the start up time of the converter. After power up (VDD>13V AND VREF>4.5V), or after a fault condition has been cleared, the soft start capacitor is (See Datasheet)"

## UCC25701PWTRG4
designator U?
Advanced Voltage Mode Pulse Width Modulator with Voltage Control, 99 % Duty Cycle, -40 to +85 degC, 14-pin TSSOP (PW), Green (RoHS & no Sb/Br); PartNumber: UCC25701PWTRG4; Manufacturer: Texas Instruments; Duty Cycle(Max)(%): 99; Frequency(Max)(kHz): 700; Rating: Catalog; Regulated Outputs(#): 1; SubFamily: PWM Controller; Topology: Boost, Flyback, Forward; UVLO Thresholds On/Off(V): 13/9; DatasheetVersion: SLUS293C; PackageVersion: revG, Feb-2011; PackageReference: PW14; PackageDescription: 14-Pin Thin Small Outline Package 0.65 mm Pitch; Supplier 1: Digi-Key; Supplier Part Number 1: UCC25701PWTRG4-ND; Supplier 2: Newark; Supplier Part Number 2: 71J8413; Supplier 3: Mouser; Supplier Part Number 3: 595-UCC25701PWTRG4; Control Method: Voltage; Eco-Plan: Green (RoHS & no Sb/Br); Mounting Technology: Surface Mount; Code_JEDEC: MO-153; ComponentLink1Description: Datasheet; ComponentLink1URL: http://www.ti.com/general/docs/lit/getliterature.tsp?genericPartNumber=UCC25701&fileType=pdf
footprint PW14_N (TSOP, 14-Leads, Body 5x4.4mm, Pitch 0.65mm, IPC Medium Density)
footprint PW14_L (TSOP, 14-Leads, Body 5x4.4mm, Pitch 0.65mm, IPC High Density)
footprint PW14_M (TSOP, 14-Leads, Body 5x4.4mm, Pitch 0.65mm, IPC Low Density)
pins: 1 COUNT (in) "Capacitor to ground integrates current pulses generated when ILIM exceeds 200mV. A resistor to ground sets the discharge time constant. A voltage over 4V will initiate a latched soft stop cycle.", 2 ILIM (in) "Provides a pulse by pulse current limit by terminating the PWM pulse when the input is above 200mV. An input over 600mV initiates a latched soft stop cycle.", 3 VDD (power) "Power supply pin. A shunt regulator limits supply voltage to 14V typical at 10mA shunt current.", 4 OUT (out) "Gate drive output. Output resistance is 10ohm maximum.", 5 PGND (power) "Power Ground. Ground return for output driver and currents.", 6 VFF (in) "Voltage feedforward pin. This pin connects to the power supply input voltage through a resistive divider and provides feedforward compensation over a 0.8V to 3.2V range. A voltage greater than 4.0V or less than 0.6V on this (See Datasheet)", 7 RT "The voltage on this pin mirrors VFF over a 0.8V to 3.2V range. A resistor to ground sets the ramp capacitor charge current. The resistor value should be between 20k and 200k.", 8 FB (in) "Input to the PWM comparator. This pin is intended to be driven with an optocoupler circuit. Input impedance is 50 k ohm Typical modulation range is 1.6V to 3.6V.", 9 VSCLAMP (in) "Voltage at this pin is compared to the CT voltage, providing a constant volt-second limit. The comparator output terminates the PWM pulse when the ramp voltage exceeds VSCLAMP.", 10 CT "A capacitor to ground provides the oscillator/ feedforward sawtooth waveform. Charge current is 2 ohm IRT, resulting in a CT slope proportional to the input voltage. The ramp voltage range is GND to VRT.", 11 SYNC (in) "Level sensitive oscillator sync input. A high level forces the gate drive output low and resets the ramp capacitor. On-time starts at the negative edge the pulse. There is a 3 uA pull down current on the pin, allowing it to (See Datasheet)", 12 VREF (out) "5.0V trimmed reference with 2% variation over line, load and temperature. Bypass with a minimum of 0.1 uF to ground.", 13 GND (power) "Analog Ground. Ground return for all other circuits. This pin must be connected directly to PGND on the board.", 14 SS (in) "Soft Start pin. A capacitor is connected between this pin and ground to set the start up time of the converter. After power up (VDD>13V AND VREF>4.5V), or after a fault condition has been cleared, the soft start capacitor is (See Datasheet)"

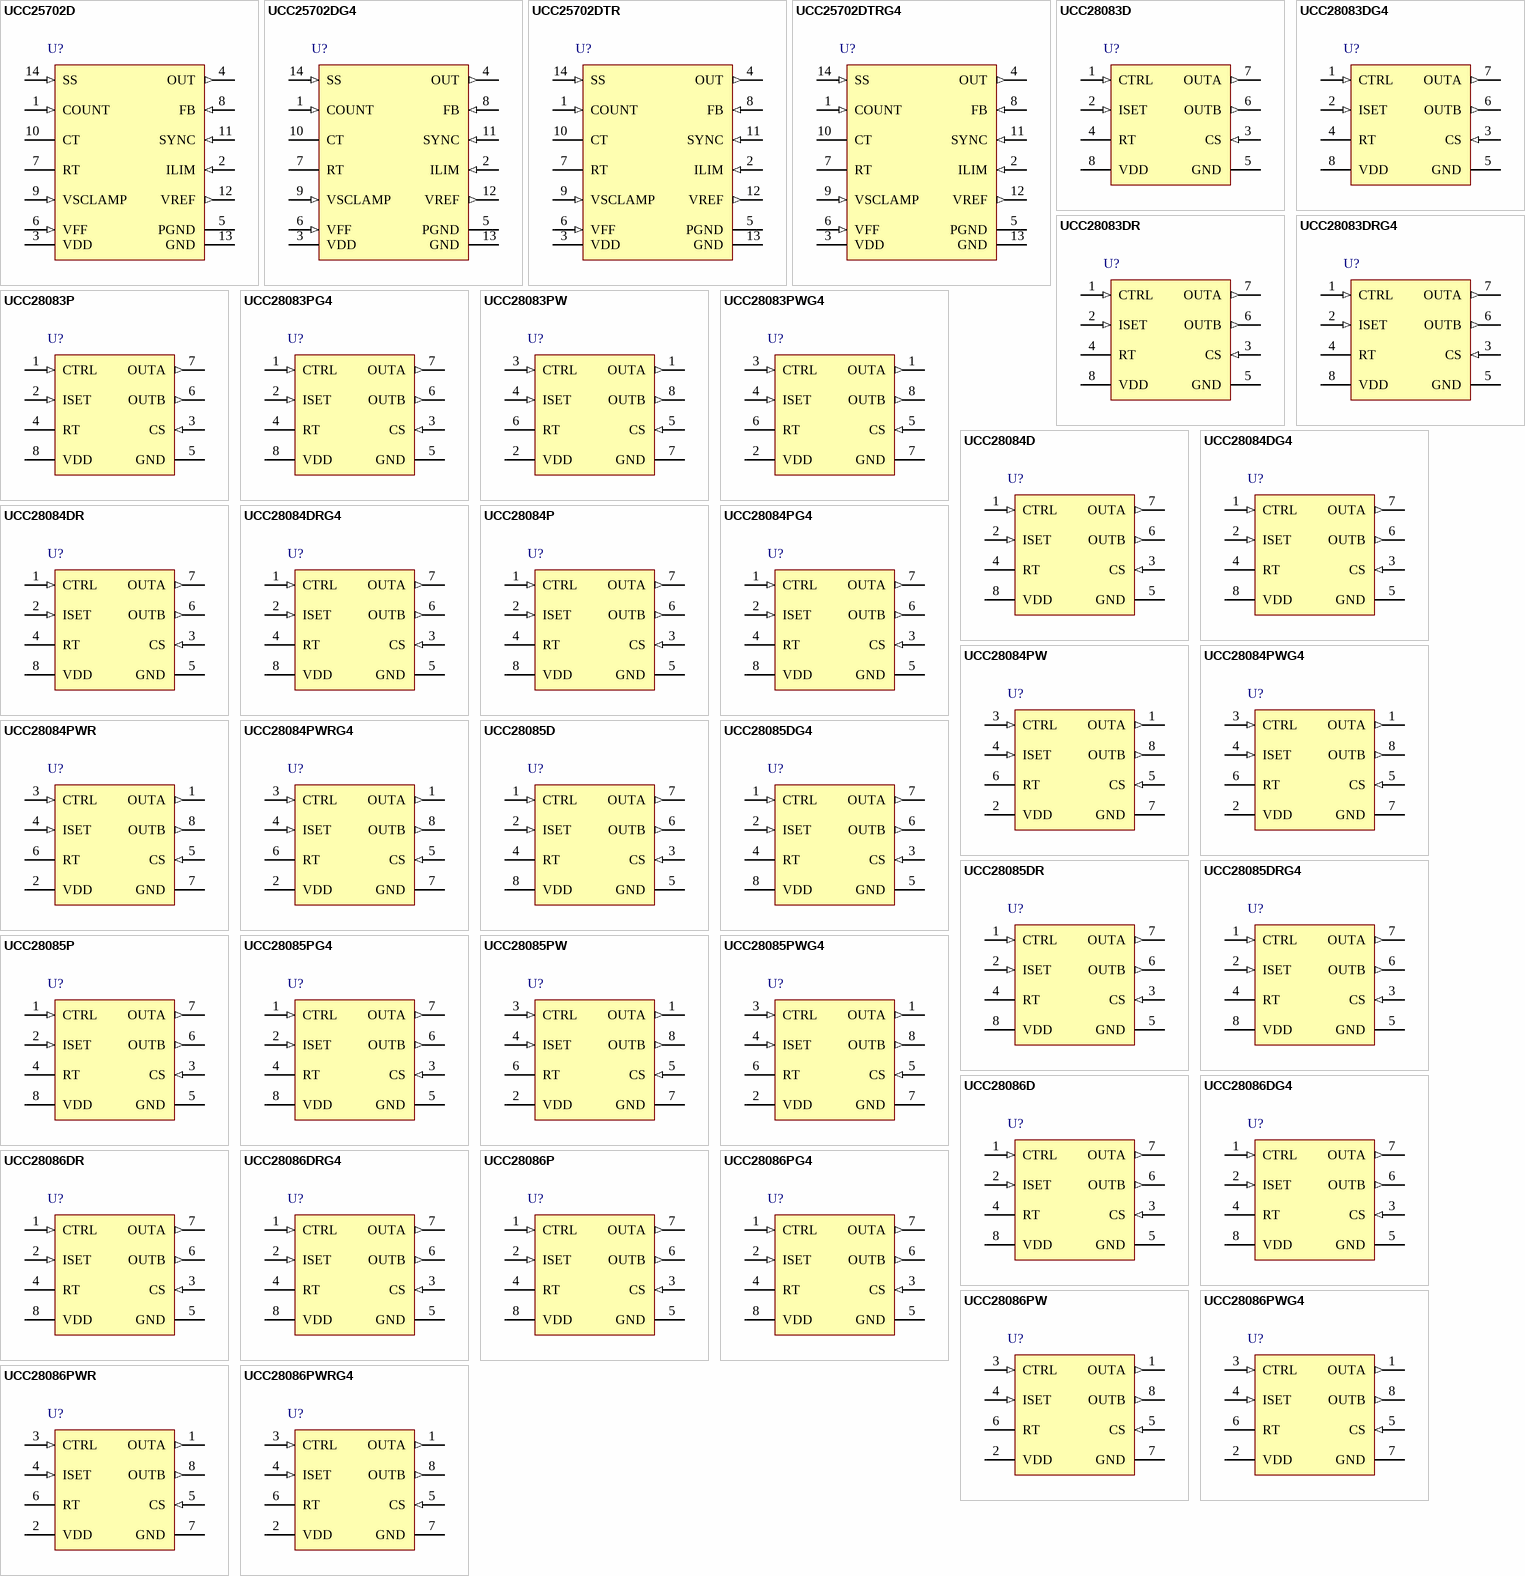
[diagram p40: symbols UCC25702D to UCC28086PWRG4]

## UCC25702D
designator U?
Advanced Voltage Mode Pulse Width Modulator with Voltage Control, 99 % Duty Cycle, -40 to +85 degC, 14-pin SOIC (D), Green (RoHS & no Sb/Br); PartNumber: UCC25702D; Manufacturer: Texas Instruments; Duty Cycle(Max)(%): 99; Frequency(Max)(kHz): 700; Rating: Catalog; Regulated Outputs(#): 1; SubFamily: PWM Controller; Topology: Boost, Flyback, Forward; UVLO Thresholds On/Off(V): 9.9/9.1; DatasheetVersion: SLUS293C; PackageVersion: revM, Jun-2011; PackageReference: D14; PackageDescription: 14-Pin Plastic Small Outline Integrated Circuit, 8.7 x 3.9 mm, Pitch 1.27 mm Pitch; Supplier 1: Digi-Key; Supplier Part Number 1: 296-12194-5-ND; Supplier 2: Newark; Supplier Part Number 2: 77C1918; Supplier 3: Mouser; Supplier Part Number 3: 595-UCC25702D; Control Method: Voltage; Eco-Plan: Green (RoHS & no Sb/Br); Mounting Technology: Surface Mount; Code_JEDEC: MS-012AB; ComponentLink1Description: Datasheet; ComponentLink1URL: http://www.ti.com/general/docs/lit/getliterature.tsp?genericPartNumber=UCC25702&fileType=pdf
footprint D14_N (SOIC, 14-Leads, Body 8.7x3.9mm, Pitch 1.27mm, IPC Medium Density)
footprint D14_L (SOIC, 14-Leads, Body 8.7x3.9mm, Pitch 1.27mm, IPC High Density)
footprint D14_M (SOIC, 14-Leads, Body 8.7x3.9mm, Pitch 1.27mm, IPC Low Density)
pins: 1 COUNT (in) "Capacitor to ground integrates current pulses generated when ILIM exceeds 200mV. A resistor to ground sets the discharge time constant. A voltage over 4V will initiate a latched soft stop cycle.", 2 ILIM (in) "Provides a pulse by pulse current limit by terminating the PWM pulse when the input is above 200mV. An input over 600mV initiates a latched soft stop cycle.", 3 VDD (power) "Power supply pin. A shunt regulator limits supply voltage to 14V typical at 10mA shunt current.", 4 OUT (out) "Gate drive output. Output resistance is 10ohm maximum.", 5 PGND (power) "Power Ground. Ground return for output driver and currents.", 6 VFF (in) "Voltage feedforward pin. This pin connects to the power supply input voltage through a resistive divider and provides feedforward compensation over a 0.8V to 3.2V range. A voltage greater than 4.0V or less than 0.6V on this (See Datasheet)", 7 RT "The voltage on this pin mirrors VFF over a 0.8V to 3.2V range. A resistor to ground sets the ramp capacitor charge current. The resistor value should be between 20k and 200k.", 8 FB (in) "Input to the PWM comparator. This pin is intended to be driven with an optocoupler circuit. Input impedance is 50 k ohm Typical modulation range is 1.6V to 3.6V.", 9 VSCLAMP (in) "Voltage at this pin is compared to the CT voltage, providing a constant volt-second limit. The comparator output terminates the PWM pulse when the ramp voltage exceeds VSCLAMP.", 10 CT "A capacitor to ground provides the oscillator/ feedforward sawtooth waveform. Charge current is 2 ohm IRT, resulting in a CT slope proportional to the input voltage. The ramp voltage range is GND to VRT.", 11 SYNC (in) "Level sensitive oscillator sync input. A high level forces the gate drive output low and resets the ramp capacitor. On-time starts at the negative edge the pulse. There is a 3 uA pull down current on the pin, allowing it to (See Datasheet)", 12 VREF (out) "5.0V trimmed reference with 2% variation over line, load and temperature. Bypass with a minimum of 0.1 uF to ground.", 13 GND (power) "Analog Ground. Ground return for all other circuits. This pin must be connected directly to PGND on the board.", 14 SS (in) "Soft Start pin. A capacitor is connected between this pin and ground to set the start up time of the converter. After power up (VDD>13V AND VREF>4.5V), or after a fault condition has been cleared, the soft start capacitor is (See Datasheet)"

## UCC25702DG4
designator U?
Advanced Voltage Mode Pulse Width Modulator with Voltage Control, 99 % Duty Cycle, -40 to +85 degC, 14-pin SOIC (D), Green (RoHS & no Sb/Br); PartNumber: UCC25702DG4; Manufacturer: Texas Instruments; Duty Cycle(Max)(%): 99; Frequency(Max)(kHz): 700; Rating: Catalog; Regulated Outputs(#): 1; SubFamily: PWM Controller; Topology: Boost, Flyback, Forward; UVLO Thresholds On/Off(V): 9.9/9.1; DatasheetVersion: SLUS293C; PackageVersion: revM, Jun-2011; PackageReference: D14; PackageDescription: 14-Pin Plastic Small Outline Integrated Circuit, 8.7 x 3.9 mm, Pitch 1.27 mm Pitch; Supplier 1: Digi-Key; Supplier Part Number 1: UCC25702DG4-ND; Supplier 2: Newark; Supplier Part Number 2: 67K8761; Supplier 3: Mouser; Supplier Part Number 3: 595-UCC25702DG4; Control Method: Voltage; Eco-Plan: Green (RoHS & no Sb/Br); Mounting Technology: Surface Mount; Code_JEDEC: MS-012AB; ComponentLink1Description: Datasheet; ComponentLink1URL: http://www.ti.com/general/docs/lit/getliterature.tsp?genericPartNumber=UCC25702&fileType=pdf
footprint D14_N (SOIC, 14-Leads, Body 8.7x3.9mm, Pitch 1.27mm, IPC Medium Density)
footprint D14_L (SOIC, 14-Leads, Body 8.7x3.9mm, Pitch 1.27mm, IPC High Density)
footprint D14_M (SOIC, 14-Leads, Body 8.7x3.9mm, Pitch 1.27mm, IPC Low Density)
pins: 1 COUNT (in) "Capacitor to ground integrates current pulses generated when ILIM exceeds 200mV. A resistor to ground sets the discharge time constant. A voltage over 4V will initiate a latched soft stop cycle.", 2 ILIM (in) "Provides a pulse by pulse current limit by terminating the PWM pulse when the input is above 200mV. An input over 600mV initiates a latched soft stop cycle.", 3 VDD (power) "Power supply pin. A shunt regulator limits supply voltage to 14V typical at 10mA shunt current.", 4 OUT (out) "Gate drive output. Output resistance is 10ohm maximum.", 5 PGND (power) "Power Ground. Ground return for output driver and currents.", 6 VFF (in) "Voltage feedforward pin. This pin connects to the power supply input voltage through a resistive divider and provides feedforward compensation over a 0.8V to 3.2V range. A voltage greater than 4.0V or less than 0.6V on this (See Datasheet)", 7 RT "The voltage on this pin mirrors VFF over a 0.8V to 3.2V range. A resistor to ground sets the ramp capacitor charge current. The resistor value should be between 20k and 200k.", 8 FB (in) "Input to the PWM comparator. This pin is intended to be driven with an optocoupler circuit. Input impedance is 50 k ohm Typical modulation range is 1.6V to 3.6V.", 9 VSCLAMP (in) "Voltage at this pin is compared to the CT voltage, providing a constant volt-second limit. The comparator output terminates the PWM pulse when the ramp voltage exceeds VSCLAMP.", 10 CT "A capacitor to ground provides the oscillator/ feedforward sawtooth waveform. Charge current is 2 ohm IRT, resulting in a CT slope proportional to the input voltage. The ramp voltage range is GND to VRT.", 11 SYNC (in) "Level sensitive oscillator sync input. A high level forces the gate drive output low and resets the ramp capacitor. On-time starts at the negative edge the pulse. There is a 3 uA pull down current on the pin, allowing it to (See Datasheet)", 12 VREF (out) "5.0V trimmed reference with 2% variation over line, load and temperature. Bypass with a minimum of 0.1 uF to ground.", 13 GND (power) "Analog Ground. Ground return for all other circuits. This pin must be connected directly to PGND on the board.", 14 SS (in) "Soft Start pin. A capacitor is connected between this pin and ground to set the start up time of the converter. After power up (VDD>13V AND VREF>4.5V), or after a fault condition has been cleared, the soft start capacitor is (See Datasheet)"